# EAGLE library part CMUT1D_2X16 (library ck)
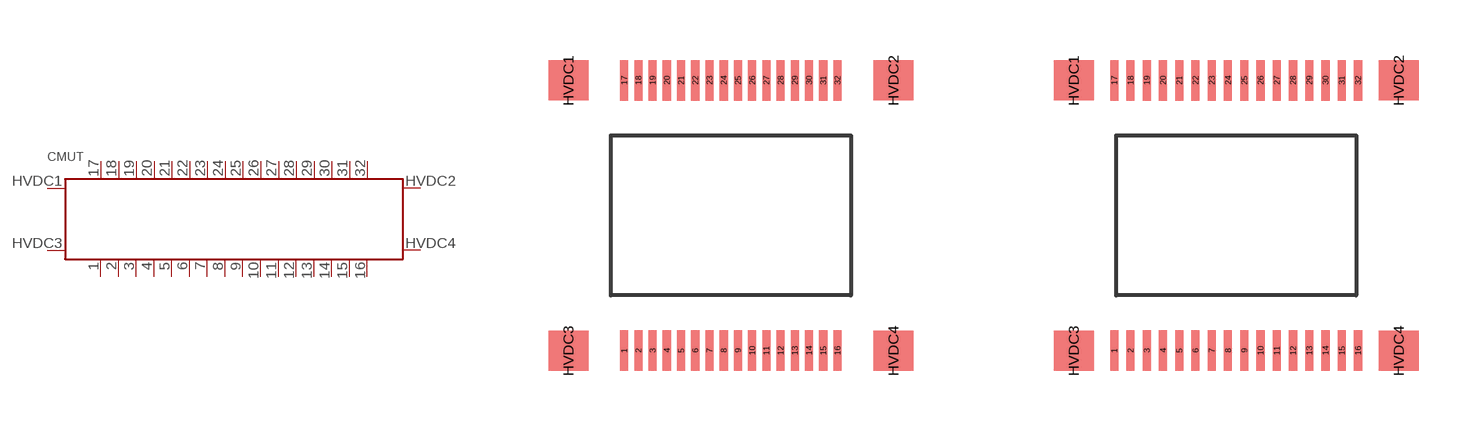
[diagram p30: symbol with the pads of CMUT1D_2X16; footprints CMUT1D_2X16, CMUT1D_2X16_8MIL]

Designator prefix CMUT

## CMUT1D_2X166MIL_PITCH, CMUT1D_2X166MIL_PITCH6MIL_PITCH  [CMUT1D_2X16]
1  O1
2  O2
3  O3
4  O4
5  O5
6  O6
7  O7
8  O8
9  O9
10  O10
11  O11
12  O12
13  O13
14  O14
15  O15
16  O16
17  O1_
18  O2_
19  O3_
20  O4_
21  O5_
22  O6_
23  O7_
24  O8_
25  O9_
26  O10_
27  O11_
28  O12_
29  O13_
30  O14_
31  O15_
32  O16_
HVDC1  HVDC
HVDC2  HVDC
HVDC3  HVDC
HVDC4  HVDC

## CMUT1D_2X168MIL  [CMUT1D_2X16_8MIL]
Pads as for CMUT1D_2X16

## CMUT1D_2X16_12MIL  [CMUT1D_2X16_16MIL]
Pads as for CMUT1D_2X16

## Footprint CMUT1D_2X16 (pad centres in mm)
smd 0.203 x 1.016: 1 -2.667,-3.378; 2 -2.311,-3.378; 3 -1.956,-3.378; 4 -1.6,-3.378; 5 -1.245,-3.378; 6 -0.889,-3.378; 7 -0.533,-3.378; 8 -0.178,-3.378; 9 0.178,-3.378; 10 0.533,-3.378; 11 0.889,-3.378; 12 1.245,-3.378; 13 1.6,-3.378; 14 1.956,-3.378; 15 2.311,-3.378; 16 2.667,-3.378; 17 -2.667,3.378; 18 -2.311,3.378; 19 -1.956,3.378; 20 -1.6,3.378; 21 -1.245,3.378; 22 -0.889,3.378; 23 -0.533,3.378; 24 -0.178,3.378; 25 0.178,3.378; 26 0.533,3.378; 27 0.889,3.378; 28 1.245,3.378; 29 1.6,3.378; 30 1.956,3.378; 31 2.311,3.378; 32 2.667,3.378
smd 1 x 1: HVDC1 -4.064,3.378; HVDC2 4.064,3.378; HVDC3 -4.064,-3.378; HVDC4 4.064,-3.378

## Footprint CMUT1D_2X16_8MIL (pad centres in mm)
smd 0.203 x 1.016: 1 -3.048,-3.378; 2 -2.642,-3.378; 3 -2.235,-3.378; 4 -1.829,-3.378; 5 -1.422,-3.378; 6 -1.016,-3.378; 7 -0.61,-3.378; 8 -0.203,-3.378; 9 0.203,-3.378; 10 0.61,-3.378; 11 1.016,-3.378; 12 1.422,-3.378; 13 1.829,-3.378; 14 2.235,-3.378; 15 2.642,-3.378; 16 3.048,-3.378; 17 -3.048,3.378; 18 -2.642,3.378; 19 -2.235,3.378; 20 -1.829,3.378; 21 -1.422,3.378; 22 -1.016,3.378; 23 -0.61,3.378; 24 -0.203,3.378; 25 0.203,3.378; 26 0.61,3.378; 27 1.016,3.378; 28 1.422,3.378; 29 1.829,3.378; 30 2.235,3.378; 31 2.642,3.378; 32 3.048,3.378
smd 1 x 1: HVDC1 -4.064,3.378; HVDC2 4.064,3.378; HVDC3 -4.064,-3.378; HVDC4 4.064,-3.378

## Footprint CMUT1D_2X16_16MIL (pad centres in mm)
smd 0.305 x 1.016: 1 -3.81,-3.87; 2 -3.302,-3.87; 3 -2.794,-3.87; 4 -2.286,-3.87; 5 -1.778,-3.87; 6 -1.27,-3.87; 7 -0.762,-3.87; 8 -0.254,-3.87; 9 0.254,-3.87; 10 0.762,-3.87; 11 1.27,-3.87; 12 1.778,-3.87; 13 2.286,-3.87; 14 2.794,-3.87; 15 3.302,-3.87; 16 3.81,-3.87; 17 -3.81,3.87; 18 -3.302,3.87; 19 -2.794,3.87; 20 -2.286,3.87; 21 -1.778,3.87; 22 -1.27,3.87; 23 -0.762,3.87; 24 -0.254,3.87; 25 0.254,3.87; 26 0.762,3.87; 27 1.27,3.87; 28 1.778,3.87; 29 2.286,3.87; 30 2.794,3.87; 31 3.302,3.87; 32 3.81,3.87
smd 1 x 1: HVDC1 -5.334,3.87; HVDC2 5.334,3.87; HVDC3 -5.334,-3.87; HVDC4 5.334,-3.87